# Altium schematic symbol library kmilo17pet-Maxim_Sensors.SchLib: 1172 symbols (part 13 of 61)
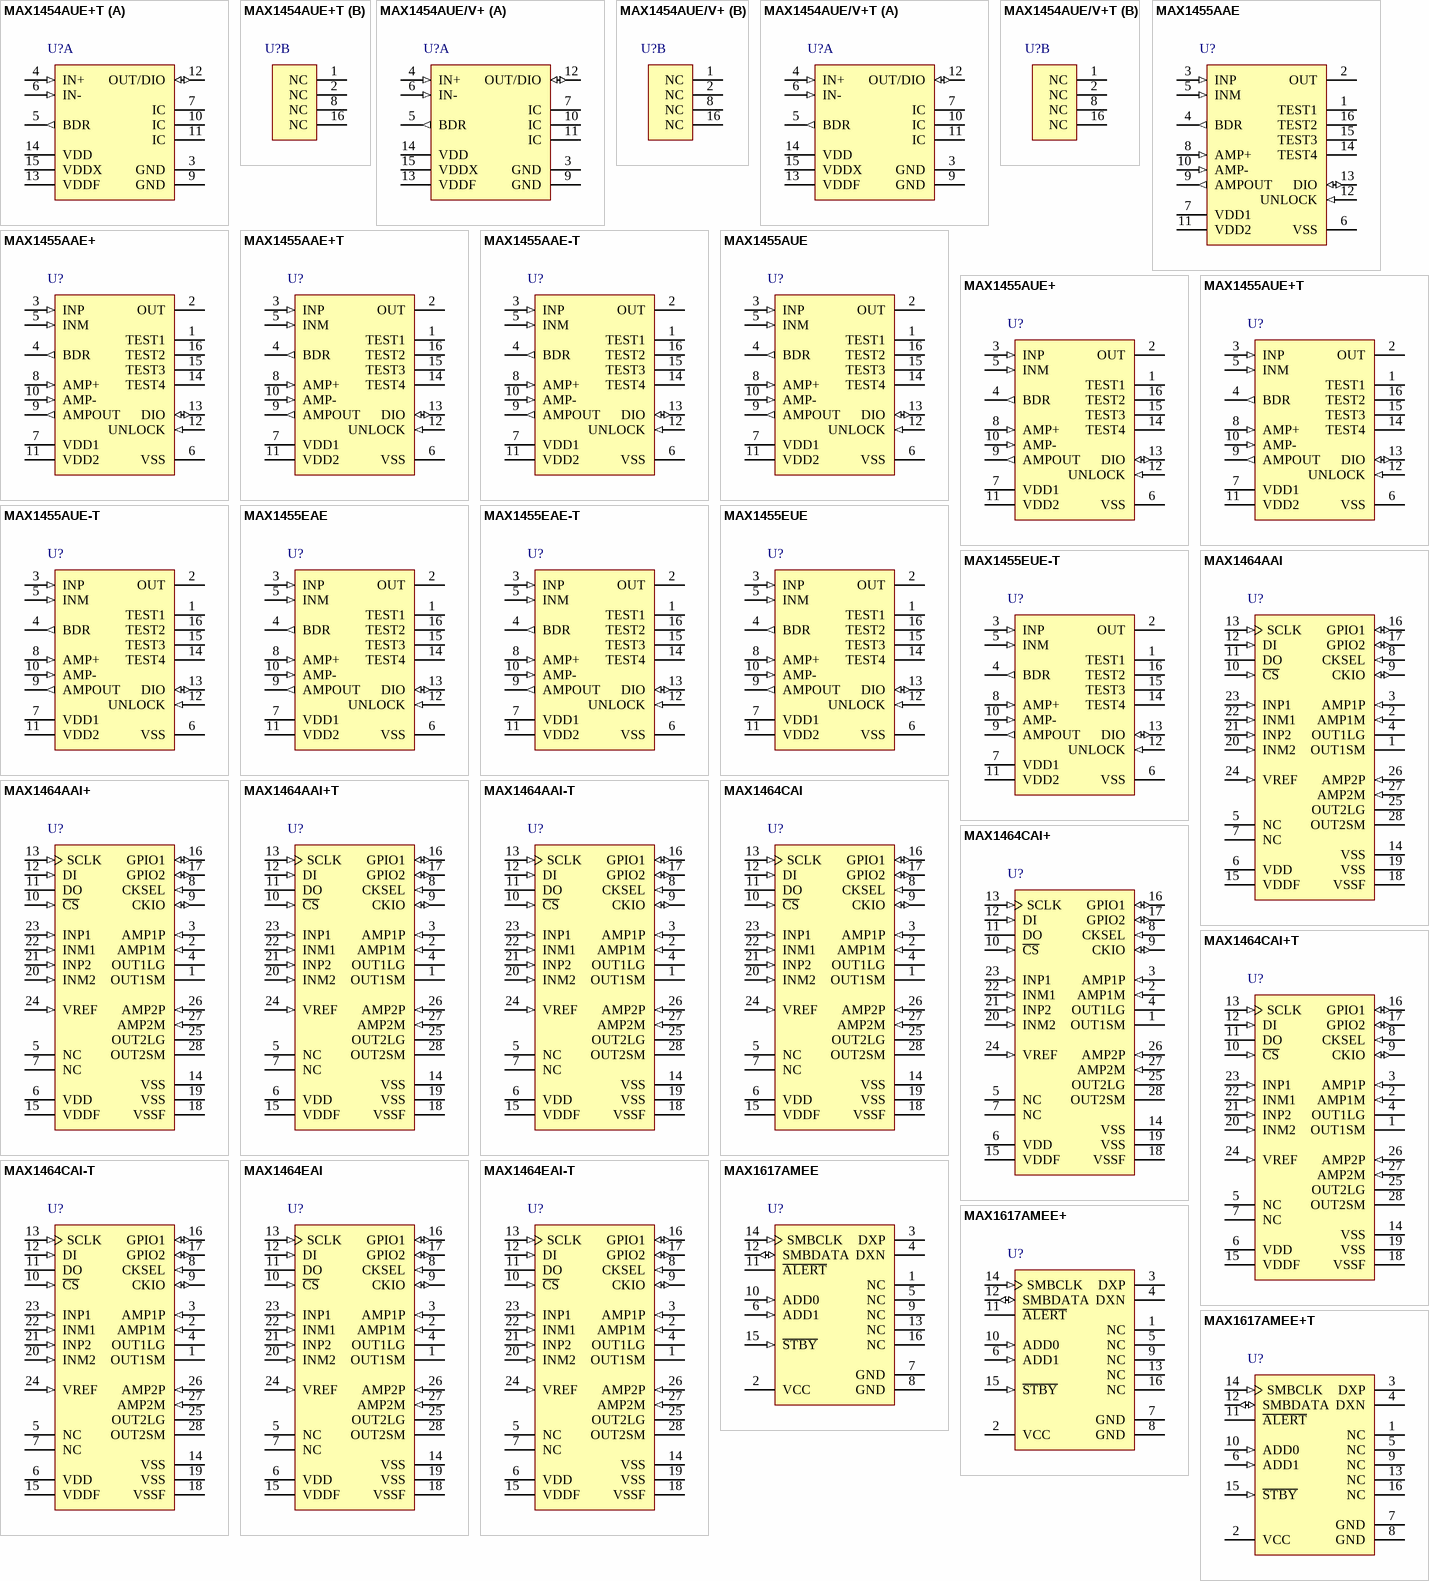
[diagram p45: symbols MAX1454AUE+T to MAX1617AMEE+T]

## MAX1464AAI
designator U?
Low-Power, Low-Noise Multichannel Sensor Signal Processor with 16-bit ADC, 16-bit DAC, -40 to 125 degC, 28-Pin SOP (A28-1); Generic Part Number: MAX1464; PartNumber: MAX1464AAI; Calibration Method: Programmable 16-BIT CPU with on-board EEPROM; Industry Qualified: Automotive - AECQ100, Automotive - General; Interface: SPI; Microcontroller/CPU: CPU (16-bit, 4 MHz); Output Type: Analog, Digital ,PMW; DatasheetVersion: Rev. 0; PackageVersion: Rev. C, 02/2010; PackageReference: A28-1; PackageDescription: 28-Pin Shrink Small-Outline Package, Body 5.29 x 10.2 mm, Pitch 0.65 mm; Supplier 1: Mouser; Supplier Part Number 1: N/A; DACs/ADCs: 16-bit ADC, 16-bit DAC; Features: Calibration, Dual Channel ,Linearization and Temp. Compensation ,Low Cost ,Outputs configurable as independent signals ,Prog. Amplification ,Temp. Sensor; Mounting Technology: Surface Mount; Code_JEDEC: MO-150; ComponentLink1Description: Manufacturer URL; ComponentLink1URL: http://www.maximintegrated.com/; ComponentLink2Description: Datasheet; ComponentLink2URL: http://datasheets.maximintegrated.com/en/ds/MAX1464.pdf; ComponentLink3Description: Package Specification; ComponentLink3URL: http://pdfserv.maximintegrated.com/package_dwgs/21-0056.PDF
footprint MAXM-A28-1_N (SOP, 28-Leads, Body 10.2x5.29mm, Pitch 0.65mm, IPC Medium Density)
footprint MAXM-A28-1_L (SOP, 28-Leads, Body 10.2x5.29mm, Pitch 0.65mm, IPC High Density)
footprint MAXM-A28-1_M (SOP, 28-Leads, Body 10.2x5.29mm, Pitch 0.65mm, IPC Low Density)
pins: 1 OUT1SM (hiz) "Small Op Amp 1 Output", 2 AMP1M (in) "Op Amp 1 Negative Input", 3 AMP1P (in) "Op Amp 1 Positive Input", 4 OUT1LG (hiz) "Large Op Amp 1 Output", 5 NC "No Connection", 6 VDD (power) "Positive Supply Voltage Input. Bypass VDD to VSS with a 0.1uF ceramic capacitor.", 7 NC "No Connection", 8 CKSEL (in) "Clock-Select Digital Input", 9 CKIO (io) "Clock Digital Input/Output", 10 ~{CS} (in) "SPI Chip-Select Digital Input. Active low.", 11 DO (hiz) "SPI Data Output", 12 DI (in) "SPI Data Input", 13 SCLK (in) "SPI Interface Clock", 14 VSS (power) "Negative Power-Supply Input", 15 VDDF (power) "Positive Supply Voltage for FLASH Memory. Bypass VDDF to VSS with a 0.1uF ceramic capacitor.", 16 GPIO1 (io) "General-Purpose Digital Input/Output 1", 17 GPIO2 (io) "General-Purpose Digital Input/Output 2", 18 VSSF (power) "Negative Power-Supply Input for FLASH Memory", 19 VSS (power) "Negative Power-Supply Input", 20 INM2 (in) "Negative Input for ADC Channel 2", 21 INP2 (in) "Positive Input for ADC Channel 2", 22 INM1 (in) "Negative Input for ADC Channel 1", 23 INP1 (in) "Positive Input for ADC Channel 1", 24 VREF (in) "External Reference Voltage Input for ADC and DACs", 25 OUT2LG (hiz) "Large Op Amp 2 Output", 26 AMP2P (in) "Op Amp 2 Positive Input", 27 AMP2M (in) "Op Amp 2 Negative Input", 28 OUT2SM (hiz) "Small Op Amp 2 Output"

## MAX1464AAI+
designator U?
Low-Power, Low-Noise Multichannel Sensor Signal Processor with 16-bit ADC, 16-bit DAC, -40 to 125 degC, 28-Pin SOP (A28+1), Pb-Free; Generic Part Number: MAX1464; PartNumber: MAX1464AAI+; Calibration Method: Programmable 16-BIT CPU with on-board EEPROM; Industry Qualified: Automotive - AECQ100, Automotive - General; Interface: SPI; Microcontroller/CPU: CPU (16-bit, 4 MHz); Output Type: Analog, Digital ,PMW; DatasheetVersion: Rev. 0; PackageVersion: Rev. C, 02/2010; PackageReference: A28+1; PackageDescription: 28-Pin Shrink Small-Outline Package, Body 5.29 x 10.2 mm, Pitch 0.65 mm; Supplier 1: Digi-Key; Supplier Part Number 1: MAX1464AAI+-ND; Supplier 2: Mouser; Supplier Part Number 2: 700-MAX1464AAI; DACs/ADCs: 16-bit ADC, 16-bit DAC; Features: Calibration, Dual Channel ,Linearization and Temp. Compensation ,Low Cost ,Outputs configurable as independent signals ,Prog. Amplification ,Temp. Sensor; Mounting Technology: Surface Mount; Code_JEDEC: MO-150; ComponentLink1Description: Manufacturer URL; ComponentLink1URL: http://www.maximintegrated.com/; ComponentLink2Description: Datasheet; ComponentLink2URL: http://datasheets.maximintegrated.com/en/ds/MAX1464.pdf; ComponentLink3Description: Package Specification; ComponentLink3URL: http://pdfserv.maximintegrated.com/package_dwgs/21-0056.PDF
footprint MAXM-A28+1_N (SOP, 28-Leads, Body 10.2x5.29mm, Pitch 0.65mm, IPC Medium Density)
footprint MAXM-A28+1_L (SOP, 28-Leads, Body 10.2x5.29mm, Pitch 0.65mm, IPC High Density)
footprint MAXM-A28+1_M (SOP, 28-Leads, Body 10.2x5.29mm, Pitch 0.65mm, IPC Low Density)
pins: 1 OUT1SM (hiz) "Small Op Amp 1 Output", 2 AMP1M (in) "Op Amp 1 Negative Input", 3 AMP1P (in) "Op Amp 1 Positive Input", 4 OUT1LG (hiz) "Large Op Amp 1 Output", 5 NC "No Connection", 6 VDD (power) "Positive Supply Voltage Input. Bypass VDD to VSS with a 0.1uF ceramic capacitor.", 7 NC "No Connection", 8 CKSEL (in) "Clock-Select Digital Input", 9 CKIO (io) "Clock Digital Input/Output", 10 ~{CS} (in) "SPI Chip-Select Digital Input. Active low.", 11 DO (hiz) "SPI Data Output", 12 DI (in) "SPI Data Input", 13 SCLK (in) "SPI Interface Clock", 14 VSS (power) "Negative Power-Supply Input", 15 VDDF (power) "Positive Supply Voltage for FLASH Memory. Bypass VDDF to VSS with a 0.1uF ceramic capacitor.", 16 GPIO1 (io) "General-Purpose Digital Input/Output 1", 17 GPIO2 (io) "General-Purpose Digital Input/Output 2", 18 VSSF (power) "Negative Power-Supply Input for FLASH Memory", 19 VSS (power) "Negative Power-Supply Input", 20 INM2 (in) "Negative Input for ADC Channel 2", 21 INP2 (in) "Positive Input for ADC Channel 2", 22 INM1 (in) "Negative Input for ADC Channel 1", 23 INP1 (in) "Positive Input for ADC Channel 1", 24 VREF (in) "External Reference Voltage Input for ADC and DACs", 25 OUT2LG (hiz) "Large Op Amp 2 Output", 26 AMP2P (in) "Op Amp 2 Positive Input", 27 AMP2M (in) "Op Amp 2 Negative Input", 28 OUT2SM (hiz) "Small Op Amp 2 Output"

## MAX1464AAI+T
designator U?
Low-Power, Low-Noise Multichannel Sensor Signal Processor with 16-bit ADC, 16-bit DAC, -40 to 125 degC, 28-Pin SOP (A28+1), Pb-Free, Tape and Reel; Generic Part Number: MAX1464; PartNumber: MAX1464AAI+T; Calibration Method: Programmable 16-BIT CPU with on-board EEPROM; Industry Qualified: Automotive - AECQ100, Automotive - General; Interface: SPI; Microcontroller/CPU: CPU (16-bit, 4 MHz); Output Type: Analog, Digital ,PMW; DatasheetVersion: Rev. 0; PackageVersion: Rev. C, 02/2010; PackageReference: A28+1; PackageDescription: 28-Pin Shrink Small-Outline Package, Body 5.29 x 10.2 mm, Pitch 0.65 mm; Supplier 1: Digi-Key; Supplier Part Number 1: MAX1464AAI+T-ND; Supplier 2: Mouser; Supplier Part Number 2: 700-MAX1464AAIT; DACs/ADCs: 16-bit ADC, 16-bit DAC; Features: Calibration, Dual Channel ,Linearization and Temp. Compensation ,Low Cost ,Outputs configurable as independent signals ,Prog. Amplification ,Temp. Sensor; Packing: Tape and Reel; Mounting Technology: Surface Mount; Code_JEDEC: MO-150; ComponentLink1Description: Manufacturer URL; ComponentLink1URL: http://www.maximintegrated.com/; ComponentLink2Description: Datasheet; ComponentLink2URL: http://datasheets.maximintegrated.com/en/ds/MAX1464.pdf; ComponentLink3Description: Package Specification; ComponentLink3URL: http://pdfserv.maximintegrated.com/package_dwgs/21-0056.PDF
footprint MAXM-A28+1_N (SOP, 28-Leads, Body 10.2x5.29mm, Pitch 0.65mm, IPC Medium Density)
footprint MAXM-A28+1_L (SOP, 28-Leads, Body 10.2x5.29mm, Pitch 0.65mm, IPC High Density)
footprint MAXM-A28+1_M (SOP, 28-Leads, Body 10.2x5.29mm, Pitch 0.65mm, IPC Low Density)
pins: 1 OUT1SM (hiz) "Small Op Amp 1 Output", 2 AMP1M (in) "Op Amp 1 Negative Input", 3 AMP1P (in) "Op Amp 1 Positive Input", 4 OUT1LG (hiz) "Large Op Amp 1 Output", 5 NC "No Connection", 6 VDD (power) "Positive Supply Voltage Input. Bypass VDD to VSS with a 0.1uF ceramic capacitor.", 7 NC "No Connection", 8 CKSEL (in) "Clock-Select Digital Input", 9 CKIO (io) "Clock Digital Input/Output", 10 ~{CS} (in) "SPI Chip-Select Digital Input. Active low.", 11 DO (hiz) "SPI Data Output", 12 DI (in) "SPI Data Input", 13 SCLK (in) "SPI Interface Clock", 14 VSS (power) "Negative Power-Supply Input", 15 VDDF (power) "Positive Supply Voltage for FLASH Memory. Bypass VDDF to VSS with a 0.1uF ceramic capacitor.", 16 GPIO1 (io) "General-Purpose Digital Input/Output 1", 17 GPIO2 (io) "General-Purpose Digital Input/Output 2", 18 VSSF (power) "Negative Power-Supply Input for FLASH Memory", 19 VSS (power) "Negative Power-Supply Input", 20 INM2 (in) "Negative Input for ADC Channel 2", 21 INP2 (in) "Positive Input for ADC Channel 2", 22 INM1 (in) "Negative Input for ADC Channel 1", 23 INP1 (in) "Positive Input for ADC Channel 1", 24 VREF (in) "External Reference Voltage Input for ADC and DACs", 25 OUT2LG (hiz) "Large Op Amp 2 Output", 26 AMP2P (in) "Op Amp 2 Positive Input", 27 AMP2M (in) "Op Amp 2 Negative Input", 28 OUT2SM (hiz) "Small Op Amp 2 Output"

## MAX1464AAI-T
designator U?
Low-Power, Low-Noise Multichannel Sensor Signal Processor with 16-bit ADC, 16-bit DAC, -40 to 125 degC, 28-Pin SOP (A28-1), Tape and Reel; Generic Part Number: MAX1464; PartNumber: MAX1464AAI-T; Calibration Method: Programmable 16-BIT CPU with on-board EEPROM; Industry Qualified: Automotive - AECQ100, Automotive - General; Interface: SPI; Microcontroller/CPU: CPU (16-bit, 4 MHz); Output Type: Analog, Digital ,PMW; DatasheetVersion: Rev. 0; PackageVersion: Rev. C, 02/2010; PackageReference: A28-1; PackageDescription: 28-Pin Shrink Small-Outline Package, Body 5.29 x 10.2 mm, Pitch 0.65 mm; Supplier 1: Mouser; Supplier Part Number 1: N/A; DACs/ADCs: 16-bit ADC, 16-bit DAC; Features: Calibration, Dual Channel ,Linearization and Temp. Compensation ,Low Cost ,Outputs configurable as independent signals ,Prog. Amplification ,Temp. Sensor; Packing: Tape and Reel; Mounting Technology: Surface Mount; Code_JEDEC: MO-150; ComponentLink1Description: Manufacturer URL; ComponentLink1URL: http://www.maximintegrated.com/; ComponentLink2Description: Datasheet; ComponentLink2URL: http://datasheets.maximintegrated.com/en/ds/MAX1464.pdf; ComponentLink3Description: Package Specification; ComponentLink3URL: http://pdfserv.maximintegrated.com/package_dwgs/21-0056.PDF
footprint MAXM-A28-1_N (SOP, 28-Leads, Body 10.2x5.29mm, Pitch 0.65mm, IPC Medium Density)
footprint MAXM-A28-1_L (SOP, 28-Leads, Body 10.2x5.29mm, Pitch 0.65mm, IPC High Density)
footprint MAXM-A28-1_M (SOP, 28-Leads, Body 10.2x5.29mm, Pitch 0.65mm, IPC Low Density)
pins: 1 OUT1SM (hiz) "Small Op Amp 1 Output", 2 AMP1M (in) "Op Amp 1 Negative Input", 3 AMP1P (in) "Op Amp 1 Positive Input", 4 OUT1LG (hiz) "Large Op Amp 1 Output", 5 NC "No Connection", 6 VDD (power) "Positive Supply Voltage Input. Bypass VDD to VSS with a 0.1uF ceramic capacitor.", 7 NC "No Connection", 8 CKSEL (in) "Clock-Select Digital Input", 9 CKIO (io) "Clock Digital Input/Output", 10 ~{CS} (in) "SPI Chip-Select Digital Input. Active low.", 11 DO (hiz) "SPI Data Output", 12 DI (in) "SPI Data Input", 13 SCLK (in) "SPI Interface Clock", 14 VSS (power) "Negative Power-Supply Input", 15 VDDF (power) "Positive Supply Voltage for FLASH Memory. Bypass VDDF to VSS with a 0.1uF ceramic capacitor.", 16 GPIO1 (io) "General-Purpose Digital Input/Output 1", 17 GPIO2 (io) "General-Purpose Digital Input/Output 2", 18 VSSF (power) "Negative Power-Supply Input for FLASH Memory", 19 VSS (power) "Negative Power-Supply Input", 20 INM2 (in) "Negative Input for ADC Channel 2", 21 INP2 (in) "Positive Input for ADC Channel 2", 22 INM1 (in) "Negative Input for ADC Channel 1", 23 INP1 (in) "Positive Input for ADC Channel 1", 24 VREF (in) "External Reference Voltage Input for ADC and DACs", 25 OUT2LG (hiz) "Large Op Amp 2 Output", 26 AMP2P (in) "Op Amp 2 Positive Input", 27 AMP2M (in) "Op Amp 2 Negative Input", 28 OUT2SM (hiz) "Small Op Amp 2 Output"

## MAX1464CAI
designator U?
Low-Power, Low-Noise Multichannel Sensor Signal Processor with 16-bit ADC, 16-bit DAC, 0 to 70 degC, 28-Pin SOP (A28-1); Generic Part Number: MAX1464; PartNumber: MAX1464CAI; Calibration Method: Programmable 16-BIT CPU with on-board EEPROM; Industry Qualified: Automotive - AECQ100, Automotive - General; Interface: SPI; Microcontroller/CPU: CPU (16-bit, 4 MHz); Output Type: Analog, Digital ,PMW; DatasheetVersion: Rev. 0; PackageVersion: Rev. C, 02/2010; PackageReference: A28-1; PackageDescription: 28-Pin Shrink Small-Outline Package, Body 5.29 x 10.2 mm, Pitch 0.65 mm; Supplier 1: Mouser; Supplier Part Number 1: N/A; DACs/ADCs: 16-bit ADC, 16-bit DAC; Features: Calibration, Dual Channel ,Linearization and Temp. Compensation ,Low Cost ,Outputs configurable as independent signals ,Prog. Amplification ,Temp. Sensor; Mounting Technology: Surface Mount; Code_JEDEC: MO-150; ComponentLink1Description: Manufacturer URL; ComponentLink1URL: http://www.maximintegrated.com/; ComponentLink2Description: Datasheet; ComponentLink2URL: http://datasheets.maximintegrated.com/en/ds/MAX1464.pdf; ComponentLink3Description: Package Specification; ComponentLink3URL: http://pdfserv.maximintegrated.com/package_dwgs/21-0056.PDF
footprint MAXM-A28-1_N (SOP, 28-Leads, Body 10.2x5.29mm, Pitch 0.65mm, IPC Medium Density)
footprint MAXM-A28-1_L (SOP, 28-Leads, Body 10.2x5.29mm, Pitch 0.65mm, IPC High Density)
footprint MAXM-A28-1_M (SOP, 28-Leads, Body 10.2x5.29mm, Pitch 0.65mm, IPC Low Density)
pins: 1 OUT1SM (hiz) "Small Op Amp 1 Output", 2 AMP1M (in) "Op Amp 1 Negative Input", 3 AMP1P (in) "Op Amp 1 Positive Input", 4 OUT1LG (hiz) "Large Op Amp 1 Output", 5 NC "No Connection", 6 VDD (power) "Positive Supply Voltage Input. Bypass VDD to VSS with a 0.1uF ceramic capacitor.", 7 NC "No Connection", 8 CKSEL (in) "Clock-Select Digital Input", 9 CKIO (io) "Clock Digital Input/Output", 10 ~{CS} (in) "SPI Chip-Select Digital Input. Active low.", 11 DO (hiz) "SPI Data Output", 12 DI (in) "SPI Data Input", 13 SCLK (in) "SPI Interface Clock", 14 VSS (power) "Negative Power-Supply Input", 15 VDDF (power) "Positive Supply Voltage for FLASH Memory. Bypass VDDF to VSS with a 0.1uF ceramic capacitor.", 16 GPIO1 (io) "General-Purpose Digital Input/Output 1", 17 GPIO2 (io) "General-Purpose Digital Input/Output 2", 18 VSSF (power) "Negative Power-Supply Input for FLASH Memory", 19 VSS (power) "Negative Power-Supply Input", 20 INM2 (in) "Negative Input for ADC Channel 2", 21 INP2 (in) "Positive Input for ADC Channel 2", 22 INM1 (in) "Negative Input for ADC Channel 1", 23 INP1 (in) "Positive Input for ADC Channel 1", 24 VREF (in) "External Reference Voltage Input for ADC and DACs", 25 OUT2LG (hiz) "Large Op Amp 2 Output", 26 AMP2P (in) "Op Amp 2 Positive Input", 27 AMP2M (in) "Op Amp 2 Negative Input", 28 OUT2SM (hiz) "Small Op Amp 2 Output"

## MAX1464CAI+
designator U?
Low-Power, Low-Noise Multichannel Sensor Signal Processor with 16-bit ADC, 16-bit DAC, 0 to 70 degC, 28-Pin SOP (A28+1), Pb-Free; Generic Part Number: MAX1464; PartNumber: MAX1464CAI+; Calibration Method: Programmable 16-BIT CPU with on-board EEPROM; Industry Qualified: Automotive - AECQ100, Automotive - General; Interface: SPI; Microcontroller/CPU: CPU (16-bit, 4 MHz); Output Type: Analog, Digital ,PMW; DatasheetVersion: Rev. 0; PackageVersion: Rev. C, 02/2010; PackageReference: A28+1; PackageDescription: 28-Pin Shrink Small-Outline Package, Body 5.29 x 10.2 mm, Pitch 0.65 mm; Supplier 1: Mouser; Supplier Part Number 1: N/A; DACs/ADCs: 16-bit ADC, 16-bit DAC; Features: Calibration, Dual Channel ,Linearization and Temp. Compensation ,Low Cost ,Outputs configurable as independent signals ,Prog. Amplification ,Temp. Sensor; Mounting Technology: Surface Mount; Code_JEDEC: MO-150; ComponentLink1Description: Manufacturer URL; ComponentLink1URL: http://www.maximintegrated.com/; ComponentLink2Description: Datasheet; ComponentLink2URL: http://datasheets.maximintegrated.com/en/ds/MAX1464.pdf; ComponentLink3Description: Package Specification; ComponentLink3URL: http://pdfserv.maximintegrated.com/package_dwgs/21-0056.PDF
footprint MAXM-A28+1_N (SOP, 28-Leads, Body 10.2x5.29mm, Pitch 0.65mm, IPC Medium Density)
footprint MAXM-A28+1_L (SOP, 28-Leads, Body 10.2x5.29mm, Pitch 0.65mm, IPC High Density)
footprint MAXM-A28+1_M (SOP, 28-Leads, Body 10.2x5.29mm, Pitch 0.65mm, IPC Low Density)
pins: 1 OUT1SM (hiz) "Small Op Amp 1 Output", 2 AMP1M (in) "Op Amp 1 Negative Input", 3 AMP1P (in) "Op Amp 1 Positive Input", 4 OUT1LG (hiz) "Large Op Amp 1 Output", 5 NC "No Connection", 6 VDD (power) "Positive Supply Voltage Input. Bypass VDD to VSS with a 0.1uF ceramic capacitor.", 7 NC "No Connection", 8 CKSEL (in) "Clock-Select Digital Input", 9 CKIO (io) "Clock Digital Input/Output", 10 ~{CS} (in) "SPI Chip-Select Digital Input. Active low.", 11 DO (hiz) "SPI Data Output", 12 DI (in) "SPI Data Input", 13 SCLK (in) "SPI Interface Clock", 14 VSS (power) "Negative Power-Supply Input", 15 VDDF (power) "Positive Supply Voltage for FLASH Memory. Bypass VDDF to VSS with a 0.1uF ceramic capacitor.", 16 GPIO1 (io) "General-Purpose Digital Input/Output 1", 17 GPIO2 (io) "General-Purpose Digital Input/Output 2", 18 VSSF (power) "Negative Power-Supply Input for FLASH Memory", 19 VSS (power) "Negative Power-Supply Input", 20 INM2 (in) "Negative Input for ADC Channel 2", 21 INP2 (in) "Positive Input for ADC Channel 2", 22 INM1 (in) "Negative Input for ADC Channel 1", 23 INP1 (in) "Positive Input for ADC Channel 1", 24 VREF (in) "External Reference Voltage Input for ADC and DACs", 25 OUT2LG (hiz) "Large Op Amp 2 Output", 26 AMP2P (in) "Op Amp 2 Positive Input", 27 AMP2M (in) "Op Amp 2 Negative Input", 28 OUT2SM (hiz) "Small Op Amp 2 Output"

## MAX1464CAI+T
designator U?
Low-Power, Low-Noise Multichannel Sensor Signal Processor with 16-bit ADC, 16-bit DAC, 0 to 70 degC, 28-Pin SOP (A28+1), Pb-Free, Tape and Reel; Generic Part Number: MAX1464; PartNumber: MAX1464CAI+T; Calibration Method: Programmable 16-BIT CPU with on-board EEPROM; Industry Qualified: Automotive - AECQ100, Automotive - General; Interface: SPI; Microcontroller/CPU: CPU (16-bit, 4 MHz); Output Type: Analog, Digital ,PMW; DatasheetVersion: Rev. 0; PackageVersion: Rev. C, 02/2010; PackageReference: A28+1; PackageDescription: 28-Pin Shrink Small-Outline Package, Body 5.29 x 10.2 mm, Pitch 0.65 mm; Supplier 1: Mouser; Supplier Part Number 1: N/A; DACs/ADCs: 16-bit ADC, 16-bit DAC; Features: Calibration, Dual Channel ,Linearization and Temp. Compensation ,Low Cost ,Outputs configurable as independent signals ,Prog. Amplification ,Temp. Sensor; Packing: Tape and Reel; Mounting Technology: Surface Mount; Code_JEDEC: MO-150; ComponentLink1Description: Manufacturer URL; ComponentLink1URL: http://www.maximintegrated.com/; ComponentLink2Description: Datasheet; ComponentLink2URL: http://datasheets.maximintegrated.com/en/ds/MAX1464.pdf; ComponentLink3Description: Package Specification; ComponentLink3URL: http://pdfserv.maximintegrated.com/package_dwgs/21-0056.PDF
footprint MAXM-A28+1_N (SOP, 28-Leads, Body 10.2x5.29mm, Pitch 0.65mm, IPC Medium Density)
footprint MAXM-A28+1_L (SOP, 28-Leads, Body 10.2x5.29mm, Pitch 0.65mm, IPC High Density)
footprint MAXM-A28+1_M (SOP, 28-Leads, Body 10.2x5.29mm, Pitch 0.65mm, IPC Low Density)
pins: 1 OUT1SM (hiz) "Small Op Amp 1 Output", 2 AMP1M (in) "Op Amp 1 Negative Input", 3 AMP1P (in) "Op Amp 1 Positive Input", 4 OUT1LG (hiz) "Large Op Amp 1 Output", 5 NC "No Connection", 6 VDD (power) "Positive Supply Voltage Input. Bypass VDD to VSS with a 0.1uF ceramic capacitor.", 7 NC "No Connection", 8 CKSEL (in) "Clock-Select Digital Input", 9 CKIO (io) "Clock Digital Input/Output", 10 ~{CS} (in) "SPI Chip-Select Digital Input. Active low.", 11 DO (hiz) "SPI Data Output", 12 DI (in) "SPI Data Input", 13 SCLK (in) "SPI Interface Clock", 14 VSS (power) "Negative Power-Supply Input", 15 VDDF (power) "Positive Supply Voltage for FLASH Memory. Bypass VDDF to VSS with a 0.1uF ceramic capacitor.", 16 GPIO1 (io) "General-Purpose Digital Input/Output 1", 17 GPIO2 (io) "General-Purpose Digital Input/Output 2", 18 VSSF (power) "Negative Power-Supply Input for FLASH Memory", 19 VSS (power) "Negative Power-Supply Input", 20 INM2 (in) "Negative Input for ADC Channel 2", 21 INP2 (in) "Positive Input for ADC Channel 2", 22 INM1 (in) "Negative Input for ADC Channel 1", 23 INP1 (in) "Positive Input for ADC Channel 1", 24 VREF (in) "External Reference Voltage Input for ADC and DACs", 25 OUT2LG (hiz) "Large Op Amp 2 Output", 26 AMP2P (in) "Op Amp 2 Positive Input", 27 AMP2M (in) "Op Amp 2 Negative Input", 28 OUT2SM (hiz) "Small Op Amp 2 Output"

## MAX1464CAI-T
designator U?
Low-Power, Low-Noise Multichannel Sensor Signal Processor with 16-bit ADC, 16-bit DAC, 0 to 70 degC, 28-Pin SOP (A28-1), Tape and Reel; Generic Part Number: MAX1464; PartNumber: MAX1464CAI-T; Calibration Method: Programmable 16-BIT CPU with on-board EEPROM; Industry Qualified: Automotive - AECQ100, Automotive - General; Interface: SPI; Microcontroller/CPU: CPU (16-bit, 4 MHz); Output Type: Analog, Digital ,PMW; DatasheetVersion: Rev. 0; PackageVersion: Rev. C, 02/2010; PackageReference: A28-1; PackageDescription: 28-Pin Shrink Small-Outline Package, Body 5.29 x 10.2 mm, Pitch 0.65 mm; Supplier 1: Mouser; Supplier Part Number 1: N/A; DACs/ADCs: 16-bit ADC, 16-bit DAC; Features: Calibration, Dual Channel ,Linearization and Temp. Compensation ,Low Cost ,Outputs configurable as independent signals ,Prog. Amplification ,Temp. Sensor; Packing: Tape and Reel; Mounting Technology: Surface Mount; Code_JEDEC: MO-150; ComponentLink1Description: Manufacturer URL; ComponentLink1URL: http://www.maximintegrated.com/; ComponentLink2Description: Datasheet; ComponentLink2URL: http://datasheets.maximintegrated.com/en/ds/MAX1464.pdf; ComponentLink3Description: Package Specification; ComponentLink3URL: http://pdfserv.maximintegrated.com/package_dwgs/21-0056.PDF
footprint MAXM-A28-1_N (SOP, 28-Leads, Body 10.2x5.29mm, Pitch 0.65mm, IPC Medium Density)
footprint MAXM-A28-1_L (SOP, 28-Leads, Body 10.2x5.29mm, Pitch 0.65mm, IPC High Density)
footprint MAXM-A28-1_M (SOP, 28-Leads, Body 10.2x5.29mm, Pitch 0.65mm, IPC Low Density)
pins: 1 OUT1SM (hiz) "Small Op Amp 1 Output", 2 AMP1M (in) "Op Amp 1 Negative Input", 3 AMP1P (in) "Op Amp 1 Positive Input", 4 OUT1LG (hiz) "Large Op Amp 1 Output", 5 NC "No Connection", 6 VDD (power) "Positive Supply Voltage Input. Bypass VDD to VSS with a 0.1uF ceramic capacitor.", 7 NC "No Connection", 8 CKSEL (in) "Clock-Select Digital Input", 9 CKIO (io) "Clock Digital Input/Output", 10 ~{CS} (in) "SPI Chip-Select Digital Input. Active low.", 11 DO (hiz) "SPI Data Output", 12 DI (in) "SPI Data Input", 13 SCLK (in) "SPI Interface Clock", 14 VSS (power) "Negative Power-Supply Input", 15 VDDF (power) "Positive Supply Voltage for FLASH Memory. Bypass VDDF to VSS with a 0.1uF ceramic capacitor.", 16 GPIO1 (io) "General-Purpose Digital Input/Output 1", 17 GPIO2 (io) "General-Purpose Digital Input/Output 2", 18 VSSF (power) "Negative Power-Supply Input for FLASH Memory", 19 VSS (power) "Negative Power-Supply Input", 20 INM2 (in) "Negative Input for ADC Channel 2", 21 INP2 (in) "Positive Input for ADC Channel 2", 22 INM1 (in) "Negative Input for ADC Channel 1", 23 INP1 (in) "Positive Input for ADC Channel 1", 24 VREF (in) "External Reference Voltage Input for ADC and DACs", 25 OUT2LG (hiz) "Large Op Amp 2 Output", 26 AMP2P (in) "Op Amp 2 Positive Input", 27 AMP2M (in) "Op Amp 2 Negative Input", 28 OUT2SM (hiz) "Small Op Amp 2 Output"

## MAX1464EAI
designator U?
Low-Power, Low-Noise Multichannel Sensor Signal Processor with 16-bit ADC, 16-bit DAC, -40 to 85 degC, 28-Pin SOP (A28-1); Generic Part Number: MAX1464; PartNumber: MAX1464EAI; Calibration Method: Programmable 16-BIT CPU with on-board EEPROM; Industry Qualified: Automotive - AECQ100, Automotive - General; Interface: SPI; Microcontroller/CPU: CPU (16-bit, 4 MHz); Output Type: Analog, Digital ,PMW; DatasheetVersion: Rev. 0; PackageVersion: Rev. C, 02/2010; PackageReference: A28-1; PackageDescription: 28-Pin Shrink Small-Outline Package, Body 5.29 x 10.2 mm, Pitch 0.65 mm; Supplier 1: Mouser; Supplier Part Number 1: N/A; DACs/ADCs: 16-bit ADC, 16-bit DAC; Features: Calibration, Dual Channel ,Linearization and Temp. Compensation ,Low Cost ,Outputs configurable as independent signals ,Prog. Amplification ,Temp. Sensor; Mounting Technology: Surface Mount; Code_JEDEC: MO-150; ComponentLink1Description: Manufacturer URL; ComponentLink1URL: http://www.maximintegrated.com/; ComponentLink2Description: Datasheet; ComponentLink2URL: http://datasheets.maximintegrated.com/en/ds/MAX1464.pdf; ComponentLink3Description: Package Specification; ComponentLink3URL: http://pdfserv.maximintegrated.com/package_dwgs/21-0056.PDF
footprint MAXM-A28-1_N (SOP, 28-Leads, Body 10.2x5.29mm, Pitch 0.65mm, IPC Medium Density)
footprint MAXM-A28-1_L (SOP, 28-Leads, Body 10.2x5.29mm, Pitch 0.65mm, IPC High Density)
footprint MAXM-A28-1_M (SOP, 28-Leads, Body 10.2x5.29mm, Pitch 0.65mm, IPC Low Density)
pins: 1 OUT1SM (hiz) "Small Op Amp 1 Output", 2 AMP1M (in) "Op Amp 1 Negative Input", 3 AMP1P (in) "Op Amp 1 Positive Input", 4 OUT1LG (hiz) "Large Op Amp 1 Output", 5 NC "No Connection", 6 VDD (power) "Positive Supply Voltage Input. Bypass VDD to VSS with a 0.1uF ceramic capacitor.", 7 NC "No Connection", 8 CKSEL (in) "Clock-Select Digital Input", 9 CKIO (io) "Clock Digital Input/Output", 10 ~{CS} (in) "SPI Chip-Select Digital Input. Active low.", 11 DO (hiz) "SPI Data Output", 12 DI (in) "SPI Data Input", 13 SCLK (in) "SPI Interface Clock", 14 VSS (power) "Negative Power-Supply Input", 15 VDDF (power) "Positive Supply Voltage for FLASH Memory. Bypass VDDF to VSS with a 0.1uF ceramic capacitor.", 16 GPIO1 (io) "General-Purpose Digital Input/Output 1", 17 GPIO2 (io) "General-Purpose Digital Input/Output 2", 18 VSSF (power) "Negative Power-Supply Input for FLASH Memory", 19 VSS (power) "Negative Power-Supply Input", 20 INM2 (in) "Negative Input for ADC Channel 2", 21 INP2 (in) "Positive Input for ADC Channel 2", 22 INM1 (in) "Negative Input for ADC Channel 1", 23 INP1 (in) "Positive Input for ADC Channel 1", 24 VREF (in) "External Reference Voltage Input for ADC and DACs", 25 OUT2LG (hiz) "Large Op Amp 2 Output", 26 AMP2P (in) "Op Amp 2 Positive Input", 27 AMP2M (in) "Op Amp 2 Negative Input", 28 OUT2SM (hiz) "Small Op Amp 2 Output"

## MAX1464EAI-T
designator U?
Low-Power, Low-Noise Multichannel Sensor Signal Processor with 16-bit ADC, 16-bit DAC, -40 to 85 degC, 28-Pin SOP (A28-1), Tape and Reel; Generic Part Number: MAX1464; PartNumber: MAX1464EAI-T; Calibration Method: Programmable 16-BIT CPU with on-board EEPROM; Industry Qualified: Automotive - AECQ100, Automotive - General; Interface: SPI; Microcontroller/CPU: CPU (16-bit, 4 MHz); Output Type: Analog, Digital, PMW; DatasheetVersion: Rev. 0; PackageVersion: Rev. C, 02/2010; PackageReference: A28-1; PackageDescription: 28-Pin Shrink Small-Outline Package, Body 5.29 x 10.2 mm, Pitch 0.65 mm; Supplier 1: Mouser; Supplier Part Number 1: N/A; DACs/ADCs: 16-bit ADC, 16-bit DAC; Features: Calibration, Dual Channel, Linearization and Temp. Compensation, Low Cost, Outputs configurable as independent signals, Prog. Amplification, Temp. Sensor; Packing: Tape and Reel; Mounting Technology: Surface Mount; Code_JEDEC: MO-150; ComponentLink1Description: Manufacturer URL; ComponentLink1URL: http://www.maximintegrated.com/; ComponentLink2Description: Datasheet; ComponentLink2URL: http://datasheets.maximintegrated.com/en/ds/MAX1464.pdf; ComponentLink3Description: Package Specification; ComponentLink3URL: http://pdfserv.maximintegrated.com/package_dwgs/21-0056.PDF
footprint MAXM-A28-1_N (SOP, 28-Leads, Body 10.2x5.29mm, Pitch 0.65mm, IPC Medium Density)
footprint MAXM-A28-1_L (SOP, 28-Leads, Body 10.2x5.29mm, Pitch 0.65mm, IPC High Density)
footprint MAXM-A28-1_M (SOP, 28-Leads, Body 10.2x5.29mm, Pitch 0.65mm, IPC Low Density)
pins: 1 OUT1SM (hiz) "Small Op Amp 1 Output", 2 AMP1M (in) "Op Amp 1 Negative Input", 3 AMP1P (in) "Op Amp 1 Positive Input", 4 OUT1LG (hiz) "Large Op Amp 1 Output", 5 NC "No Connection", 6 VDD (power) "Positive Supply Voltage Input. Bypass VDD to VSS with a 0.1uF ceramic capacitor.", 7 NC "No Connection", 8 CKSEL (in) "Clock-Select Digital Input", 9 CKIO (io) "Clock Digital Input/Output", 10 ~{CS} (in) "SPI Chip-Select Digital Input. Active low.", 11 DO (hiz) "SPI Data Output", 12 DI (in) "SPI Data Input", 13 SCLK (in) "SPI Interface Clock", 14 VSS (power) "Negative Power-Supply Input", 15 VDDF (power) "Positive Supply Voltage for FLASH Memory. Bypass VDDF to VSS with a 0.1uF ceramic capacitor.", 16 GPIO1 (io) "General-Purpose Digital Input/Output 1", 17 GPIO2 (io) "General-Purpose Digital Input/Output 2", 18 VSSF (power) "Negative Power-Supply Input for FLASH Memory", 19 VSS (power) "Negative Power-Supply Input", 20 INM2 (in) "Negative Input for ADC Channel 2", 21 INP2 (in) "Positive Input for ADC Channel 2", 22 INM1 (in) "Negative Input for ADC Channel 1", 23 INP1 (in) "Positive Input for ADC Channel 1", 24 VREF (in) "External Reference Voltage Input for ADC and DACs", 25 OUT2LG (hiz) "Large Op Amp 2 Output", 26 AMP2P (in) "Op Amp 2 Positive Input", 27 AMP2M (in) "Op Amp 2 Negative Input", 28 OUT2SM (hiz) "Small Op Amp 2 Output"

## MAX1617AMEE
designator U?
Remote / Local Temperature Sensor with SMBus Serial Interface, 8 Bits Temperature Resolution, -55 to 125 degC, 16-Pin SOP (E16-1); Generic Part Number: MAX1617A; PartNumber: MAX1617AMEE; Alarm Output: Alert; Functions: Remote & Local Sensor; Interface: 2-Wire/I2C/SMBus; Parasite Pwr.: No; DatasheetVersion: Rev. 1; PackageVersion: Rev. K, 04/2012; PackageReference: E16-1; PackageDescription: 16-Pin Quarter Small-Outline Package (E16-1), Body 4.90 x 3.89 mm, Pitch 0.635 mm; Supplier 1: Digi-Key; Supplier Part Number 1: MAX1617AMEE-ND; Supplier 2: Mouser; Supplier Part Number 2: N/A; Mounting Technology: Surface Mount; Code_JEDEC: MO137; ComponentLink1Description: Manufacturer URL; ComponentLink1URL: http://www.maximintegrated.com/; ComponentLink2Description: Datasheet; ComponentLink2URL: http://datasheets.maximintegrated.com/en/ds/MAX1617A.pdf; ComponentLink3Description: Package Specification; ComponentLink3URL: http://pdfserv.maximintegrated.com/package_dwgs/21-0055.PDF
footprint MAXM-E16-1_N (SOP, 16-Leads, Body 4.9x3.89mm, Pitch 0.635mm, IPC Medium Density)
footprint MAXM-E16-1_L (SOP, 16-Leads, Body 4.9x3.89mm, Pitch 0.635mm, IPC High Density)
footprint MAXM-E16-1_M (SOP, 16-Leads, Body 4.9x3.89mm, Pitch 0.635mm, IPC Low Density)
pins: 1 NC "No Connection. Not internally connected. May be used for PC board trace routing.", 2 VCC (power) "Supply Voltage Input. +3.0V to +5.5V. Bypass to GND with a 0.1uF capacitor. A 200ohm series resistor is recommended but not required for additional noise filtering.", 3 DXP "Combined Current Source and ADC Positive Input for Remote-Junction Channel. If a remotesensing junction is not used, connect DXP to DXN.", 4 DXN "Combined Current Sink and ADC Negative Input. DXN is internally biased to a diode voltage above ground.", 5 NC "No Connection. Not internally connected. May be used for PC board trace routing.", 6 ADD1 (in) "SMBus Slave Address Select Input. ADD0 and ADD1 are sampled upon power-up.", 7 GND (power) "Ground", 8 GND (power) "Ground", 9 NC "No Connection. Not internally connected. May be used for PC board trace routing.", 10 ADD0 (in) "SMBus Slave Address Select Input. ADD0 and ADD1 are sampled upon power-up.", 11 ~{ALERT} (oc) "SMBus Alert (Interrupt) Output. Open drain.", 12 SMBDATA (io) "SMBus Serial-Data Input/Output. Open drain.", 13 NC "No Connection. Not internally connected. May be used for PC board trace routing.", 14 SMBCLK (in) "SMBus Serial-Clock Input", 15 ~{STBY} (in) "Hardware Standby Input. Temperature and comparison threshold data are retained in standby mode. Low = standby mode, high = operating mode.", 16 NC "No Connection. Not internally connected. May be used for PC board trace routing."

## MAX1617AMEE+
designator U?
Remote / Local Temperature Sensor with SMBus Serial Interface, 8 Bits Temperature Resolution, -55 to 125 degC, 16-Pin SOP (E16+1), Pb-Free; Generic Part Number: MAX1617A; PartNumber: MAX1617AMEE+; Alarm Output: Alert; Functions: Remote & Local Sensor; Interface: 2-Wire/I2C/SMBus; Parasite Pwr.: No; DatasheetVersion: Rev. 1; PackageVersion: Rev. K, 04/2012; PackageReference: E16+1; PackageDescription: 16-Pin Quarter Small-Outline Package (E16+1), Body 4.90 x 3.89 mm, Pitch 0.635 mm; Supplier 1: Digi-Key; Supplier Part Number 1: MAX1617AMEE+-ND; Supplier 2: Farnell; Supplier Part Number 2: 2113187; Supplier 3: Newark; Supplier Part Number 3: 95T9144; Supplier 4: Mouser; Supplier Part Number 4: 700-MAX1617AMEE; Mounting Technology: Surface Mount; Code_JEDEC: MO137; ComponentLink1Description: Manufacturer URL; ComponentLink1URL: http://www.maximintegrated.com/; ComponentLink2Description: Datasheet; ComponentLink2URL: http://datasheets.maximintegrated.com/en/ds/MAX1617A.pdf; ComponentLink3Description: Package Specification; ComponentLink3URL: http://pdfserv.maximintegrated.com/package_dwgs/21-0055.PDF
footprint MAXM-E16+1_N (SOP, 16-Leads, Body 4.9x3.89mm, Pitch 0.635mm, IPC Medium Density)
footprint MAXM-E16+1_L (SOP, 16-Leads, Body 4.9x3.89mm, Pitch 0.635mm, IPC High Density)
footprint MAXM-E16+1_M (SOP, 16-Leads, Body 4.9x3.89mm, Pitch 0.635mm, IPC Low Density)
pins: 1 NC "No Connection. Not internally connected. May be used for PC board trace routing.", 2 VCC (power) "Supply Voltage Input. +3.0V to +5.5V. Bypass to GND with a 0.1uF capacitor. A 200ohm series resistor is recommended but not required for additional noise filtering.", 3 DXP "Combined Current Source and ADC Positive Input for Remote-Junction Channel. If a remotesensing junction is not used, connect DXP to DXN.", 4 DXN "Combined Current Sink and ADC Negative Input. DXN is internally biased to a diode voltage above ground.", 5 NC "No Connection. Not internally connected. May be used for PC board trace routing.", 6 ADD1 (in) "SMBus Slave Address Select Input. ADD0 and ADD1 are sampled upon power-up.", 7 GND (power) "Ground", 8 GND (power) "Ground", 9 NC "No Connection. Not internally connected. May be used for PC board trace routing.", 10 ADD0 (in) "SMBus Slave Address Select Input. ADD0 and ADD1 are sampled upon power-up.", 11 ~{ALERT} (oc) "SMBus Alert (Interrupt) Output. Open drain.", 12 SMBDATA (io) "SMBus Serial-Data Input/Output. Open drain.", 13 NC "No Connection. Not internally connected. May be used for PC board trace routing.", 14 SMBCLK (in) "SMBus Serial-Clock Input", 15 ~{STBY} (in) "Hardware Standby Input. Temperature and comparison threshold data are retained in standby mode. Low = standby mode, high = operating mode.", 16 NC "No Connection. Not internally connected. May be used for PC board trace routing."

## MAX1617AMEE+T
designator U?
Remote / Local Temperature Sensor with SMBus Serial Interface, 8 Bits Temperature Resolution, -55 to 125 degC, 16-Pin SOP (E16+1), Pb-Free, Tape and Reel; Generic Part Number: MAX1617A; PartNumber: MAX1617AMEE+T; Alarm Output: Alert; Functions: Remote & Local Sensor; Interface: 2-Wire/I2C/SMBus; Parasite Pwr.: No; DatasheetVersion: Rev. 1; PackageVersion: Rev. K, 04/2012; PackageReference: E16+1; PackageDescription: 16-Pin Quarter Small-Outline Package (E16+1), Body 4.90 x 3.89 mm, Pitch 0.635 mm; Supplier 1: Digi-Key; Supplier Part Number 1: MAX1617AMEE+T-ND; Supplier 2: Mouser; Supplier Part Number 2: 700-MAX1617AMEET; Packing: Tape and Reel; Mounting Technology: Surface Mount; Code_JEDEC: MO137; ComponentLink1Description: Manufacturer URL; ComponentLink1URL: http://www.maximintegrated.com/; ComponentLink2Description: Datasheet; ComponentLink2URL: http://datasheets.maximintegrated.com/en/ds/MAX1617A.pdf; ComponentLink3Description: Package Specification; ComponentLink3URL: http://pdfserv.maximintegrated.com/package_dwgs/21-0055.PDF
footprint MAXM-E16+1_N (SOP, 16-Leads, Body 4.9x3.89mm, Pitch 0.635mm, IPC Medium Density)
footprint MAXM-E16+1_L (SOP, 16-Leads, Body 4.9x3.89mm, Pitch 0.635mm, IPC High Density)
footprint MAXM-E16+1_M (SOP, 16-Leads, Body 4.9x3.89mm, Pitch 0.635mm, IPC Low Density)
pins: 1 NC "No Connection. Not internally connected. May be used for PC board trace routing.", 2 VCC (power) "Supply Voltage Input. +3.0V to +5.5V. Bypass to GND with a 0.1uF capacitor. A 200ohm series resistor is recommended but not required for additional noise filtering.", 3 DXP "Combined Current Source and ADC Positive Input for Remote-Junction Channel. If a remotesensing junction is not used, connect DXP to DXN.", 4 DXN "Combined Current Sink and ADC Negative Input. DXN is internally biased to a diode voltage above ground.", 5 NC "No Connection. Not internally connected. May be used for PC board trace routing.", 6 ADD1 (in) "SMBus Slave Address Select Input. ADD0 and ADD1 are sampled upon power-up.", 7 GND (power) "Ground", 8 GND (power) "Ground", 9 NC "No Connection. Not internally connected. May be used for PC board trace routing.", 10 ADD0 (in) "SMBus Slave Address Select Input. ADD0 and ADD1 are sampled upon power-up.", 11 ~{ALERT} (oc) "SMBus Alert (Interrupt) Output. Open drain.", 12 SMBDATA (io) "SMBus Serial-Data Input/Output. Open drain.", 13 NC "No Connection. Not internally connected. May be used for PC board trace routing.", 14 SMBCLK (in) "SMBus Serial-Clock Input", 15 ~{STBY} (in) "Hardware Standby Input. Temperature and comparison threshold data are retained in standby mode. Low = standby mode, high = operating mode.", 16 NC "No Connection. Not internally connected. May be used for PC board trace routing."

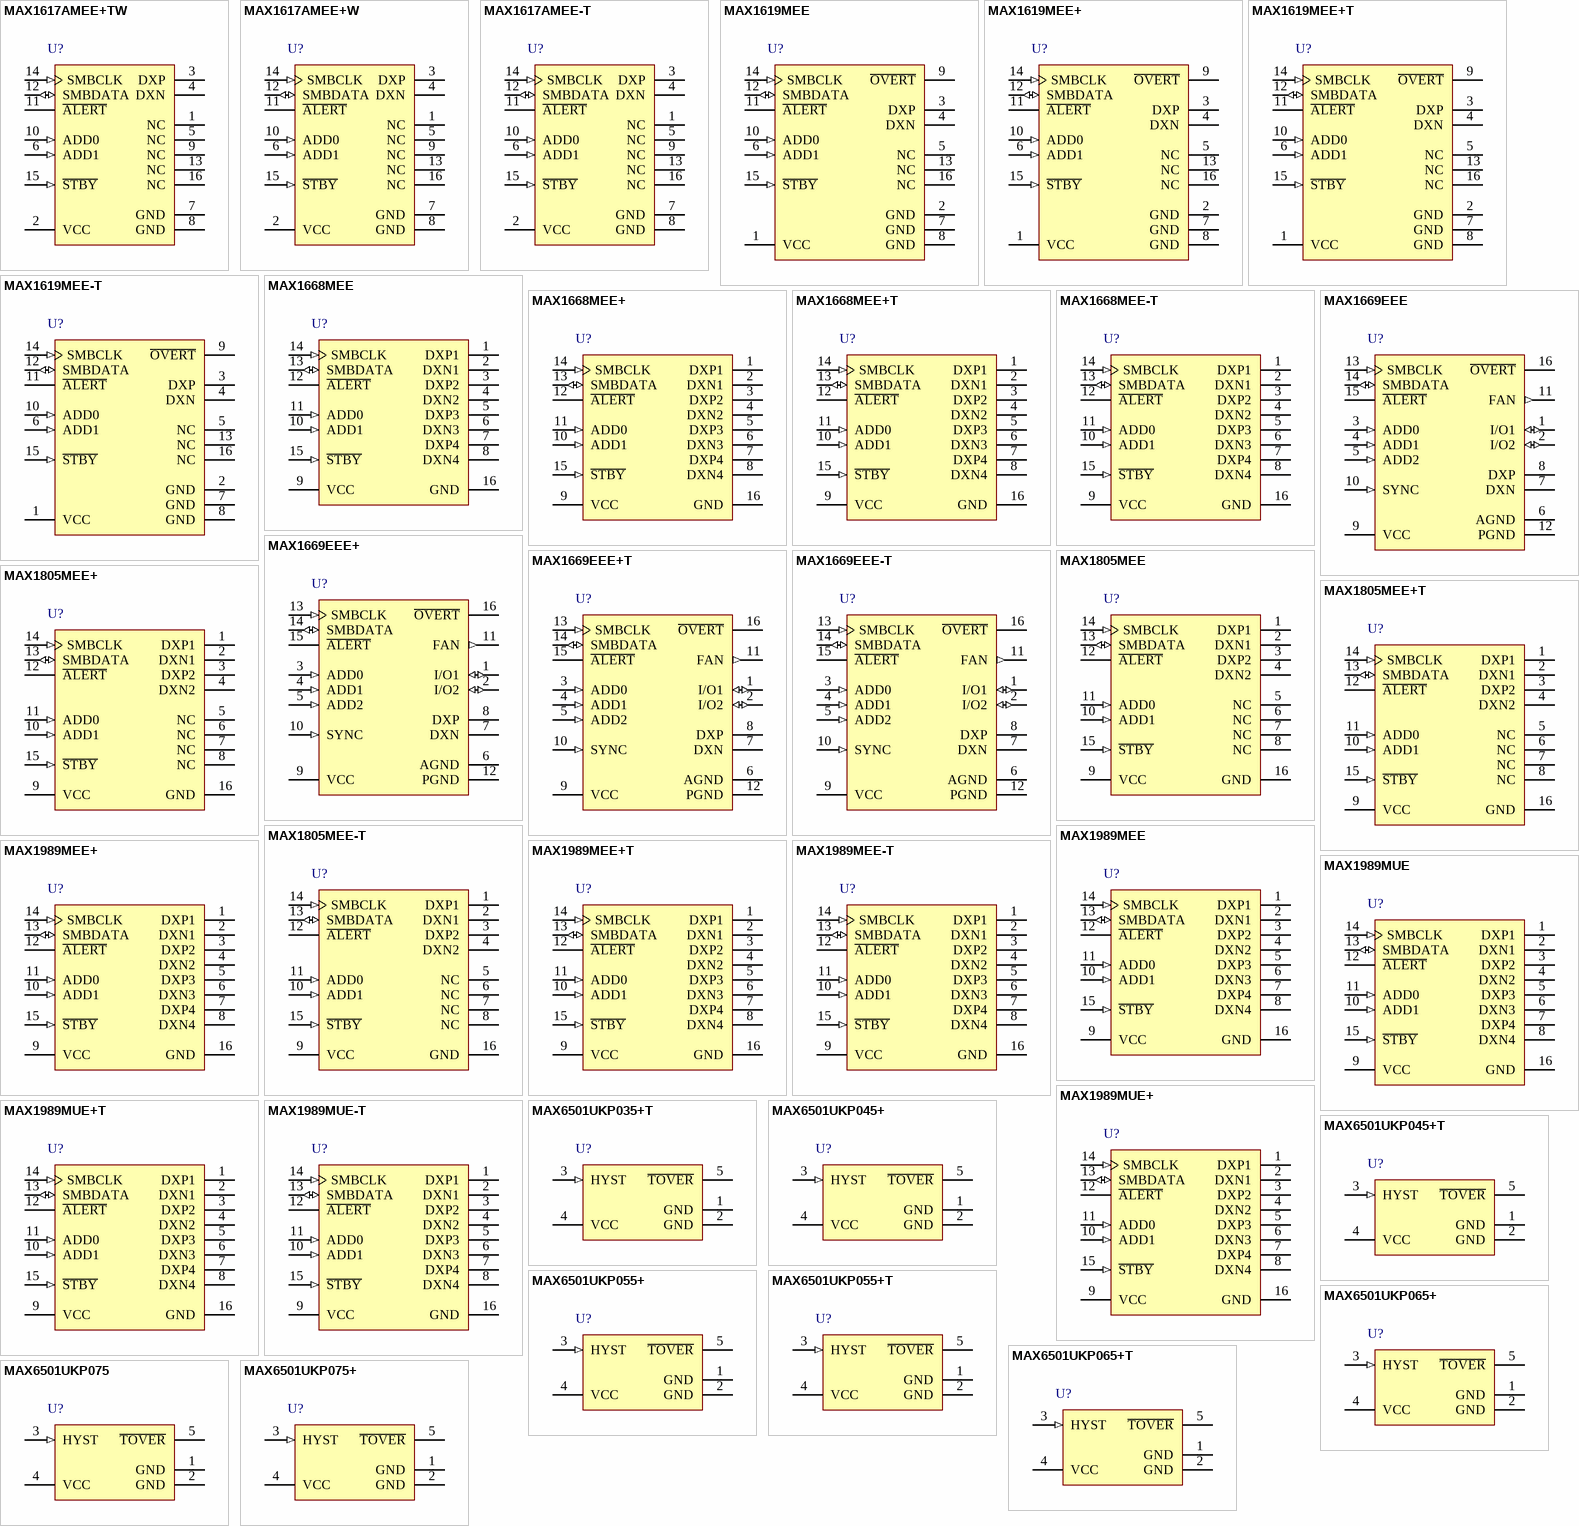
[diagram p8: symbols MAX1617AMEE+TW to MAX6501UKP075+]

## MAX1617AMEE+TW
designator U?
Remote / Local Temperature Sensor with SMBus Serial Interface, 8 Bits Temperature Resolution, -55 to 125 degC, 16-Pin SOP (E16+1), Pb-Free, Tape and Reel; Generic Part Number: MAX1617A; PartNumber: MAX1617AMEE+TW; Alarm Output: Alert; Functions: Remote & Local Sensor; Interface: 2-Wire/I2C/SMBus; Parasite Pwr.: No; DatasheetVersion: Rev. 1; PackageVersion: Rev. K, 04/2012; PackageReference: E16+1; PackageDescription: 16-Pin Quarter Small-Outline Package (E16+1), Body 4.90 x 3.89 mm, Pitch 0.635 mm; Supplier 1: Mouser; Supplier Part Number 1: N/A; Packing: Tape and Reel; Mounting Technology: Surface Mount; Code_JEDEC: MO137; ComponentLink1Description: Manufacturer URL; ComponentLink1URL: http://www.maximintegrated.com/; ComponentLink2Description: Datasheet; ComponentLink2URL: http://datasheets.maximintegrated.com/en/ds/MAX1617A.pdf; ComponentLink3Description: Package Specification; ComponentLink3URL: http://pdfserv.maximintegrated.com/package_dwgs/21-0055.PDF
footprint MAXM-E16+1_N (SOP, 16-Leads, Body 4.9x3.89mm, Pitch 0.635mm, IPC Medium Density)
footprint MAXM-E16+1_L (SOP, 16-Leads, Body 4.9x3.89mm, Pitch 0.635mm, IPC High Density)
footprint MAXM-E16+1_M (SOP, 16-Leads, Body 4.9x3.89mm, Pitch 0.635mm, IPC Low Density)
pins: 1 NC "No Connection. Not internally connected. May be used for PC board trace routing.", 2 VCC (power) "Supply Voltage Input. +3.0V to +5.5V. Bypass to GND with a 0.1uF capacitor. A 200ohm series resistor is recommended but not required for additional noise filtering.", 3 DXP "Combined Current Source and ADC Positive Input for Remote-Junction Channel. If a remotesensing junction is not used, connect DXP to DXN.", 4 DXN "Combined Current Sink and ADC Negative Input. DXN is internally biased to a diode voltage above ground.", 5 NC "No Connection. Not internally connected. May be used for PC board trace routing.", 6 ADD1 (in) "SMBus Slave Address Select Input. ADD0 and ADD1 are sampled upon power-up.", 7 GND (power) "Ground", 8 GND (power) "Ground", 9 NC "No Connection. Not internally connected. May be used for PC board trace routing.", 10 ADD0 (in) "SMBus Slave Address Select Input. ADD0 and ADD1 are sampled upon power-up.", 11 ~{ALERT} (oc) "SMBus Alert (Interrupt) Output. Open drain.", 12 SMBDATA (io) "SMBus Serial-Data Input/Output. Open drain.", 13 NC "No Connection. Not internally connected. May be used for PC board trace routing.", 14 SMBCLK (in) "SMBus Serial-Clock Input", 15 ~{STBY} (in) "Hardware Standby Input. Temperature and comparison threshold data are retained in standby mode. Low = standby mode, high = operating mode.", 16 NC "No Connection. Not internally connected. May be used for PC board trace routing."

## MAX1617AMEE+W
designator U?
Remote / Local Temperature Sensor with SMBus Serial Interface, 8 Bits Temperature Resolution, -55 to 125 degC, 16-Pin SOP (E16+1), Pb-Free; Generic Part Number: MAX1617A; PartNumber: MAX1617AMEE+W; Alarm Output: Alert; Functions: Remote & Local Sensor; Interface: 2-Wire/I2C/SMBus; Parasite Pwr.: No; DatasheetVersion: Rev. 1; PackageVersion: Rev. K, 04/2012; PackageReference: E16+1; PackageDescription: 16-Pin Quarter Small-Outline Package (E16+1), Body 4.90 x 3.89 mm, Pitch 0.635 mm; Supplier 1: Mouser; Supplier Part Number 1: N/A; Mounting Technology: Surface Mount; Code_JEDEC: MO137; ComponentLink1Description: Manufacturer URL; ComponentLink1URL: http://www.maximintegrated.com/; ComponentLink2Description: Datasheet; ComponentLink2URL: http://datasheets.maximintegrated.com/en/ds/MAX1617A.pdf; ComponentLink3Description: Package Specification; ComponentLink3URL: http://pdfserv.maximintegrated.com/package_dwgs/21-0055.PDF
footprint MAXM-E16+1_N (SOP, 16-Leads, Body 4.9x3.89mm, Pitch 0.635mm, IPC Medium Density)
footprint MAXM-E16+1_L (SOP, 16-Leads, Body 4.9x3.89mm, Pitch 0.635mm, IPC High Density)
footprint MAXM-E16+1_M (SOP, 16-Leads, Body 4.9x3.89mm, Pitch 0.635mm, IPC Low Density)
pins: 1 NC "No Connection. Not internally connected. May be used for PC board trace routing.", 2 VCC (power) "Supply Voltage Input. +3.0V to +5.5V. Bypass to GND with a 0.1uF capacitor. A 200ohm series resistor is recommended but not required for additional noise filtering.", 3 DXP "Combined Current Source and ADC Positive Input for Remote-Junction Channel. If a remotesensing junction is not used, connect DXP to DXN.", 4 DXN "Combined Current Sink and ADC Negative Input. DXN is internally biased to a diode voltage above ground.", 5 NC "No Connection. Not internally connected. May be used for PC board trace routing.", 6 ADD1 (in) "SMBus Slave Address Select Input. ADD0 and ADD1 are sampled upon power-up.", 7 GND (power) "Ground", 8 GND (power) "Ground", 9 NC "No Connection. Not internally connected. May be used for PC board trace routing.", 10 ADD0 (in) "SMBus Slave Address Select Input. ADD0 and ADD1 are sampled upon power-up.", 11 ~{ALERT} (oc) "SMBus Alert (Interrupt) Output. Open drain.", 12 SMBDATA (io) "SMBus Serial-Data Input/Output. Open drain.", 13 NC "No Connection. Not internally connected. May be used for PC board trace routing.", 14 SMBCLK (in) "SMBus Serial-Clock Input", 15 ~{STBY} (in) "Hardware Standby Input. Temperature and comparison threshold data are retained in standby mode. Low = standby mode, high = operating mode.", 16 NC "No Connection. Not internally connected. May be used for PC board trace routing."

## MAX1617AMEE-T
designator U?
Remote / Local Temperature Sensor with SMBus Serial Interface, 8 Bits Temperature Resolution, -55 to 125 degC, 16-Pin SOP (E16-1), Tape and Reel; Generic Part Number: MAX1617A; PartNumber: MAX1617AMEE-T; Alarm Output: Alert; Functions: Remote & Local Sensor; Interface: 2-Wire/I2C/SMBus; Parasite Pwr.: No; DatasheetVersion: Rev. 1; PackageVersion: Rev. K, 04/2012; PackageReference: E16-1; PackageDescription: 16-Pin Quarter Small-Outline Package (E16-1), Body 4.90 x 3.89 mm, Pitch 0.635 mm; Supplier 1: Mouser; Supplier Part Number 1: N/A; Packing: Tape and Reel; Mounting Technology: Surface Mount; Code_JEDEC: MO137; ComponentLink1Description: Manufacturer URL; ComponentLink1URL: http://www.maximintegrated.com/; ComponentLink2Description: Datasheet; ComponentLink2URL: http://datasheets.maximintegrated.com/en/ds/MAX1617A.pdf; ComponentLink3Description: Package Specification; ComponentLink3URL: http://pdfserv.maximintegrated.com/package_dwgs/21-0055.PDF
footprint MAXM-E16-1_N (SOP, 16-Leads, Body 4.9x3.89mm, Pitch 0.635mm, IPC Medium Density)
footprint MAXM-E16-1_L (SOP, 16-Leads, Body 4.9x3.89mm, Pitch 0.635mm, IPC High Density)
footprint MAXM-E16-1_M (SOP, 16-Leads, Body 4.9x3.89mm, Pitch 0.635mm, IPC Low Density)
pins: 1 NC "No Connection. Not internally connected. May be used for PC board trace routing.", 2 VCC (power) "Supply Voltage Input. +3.0V to +5.5V. Bypass to GND with a 0.1uF capacitor. A 200ohm series resistor is recommended but not required for additional noise filtering.", 3 DXP "Combined Current Source and ADC Positive Input for Remote-Junction Channel. If a remotesensing junction is not used, connect DXP to DXN.", 4 DXN "Combined Current Sink and ADC Negative Input. DXN is internally biased to a diode voltage above ground.", 5 NC "No Connection. Not internally connected. May be used for PC board trace routing.", 6 ADD1 (in) "SMBus Slave Address Select Input. ADD0 and ADD1 are sampled upon power-up.", 7 GND (power) "Ground", 8 GND (power) "Ground", 9 NC "No Connection. Not internally connected. May be used for PC board trace routing.", 10 ADD0 (in) "SMBus Slave Address Select Input. ADD0 and ADD1 are sampled upon power-up.", 11 ~{ALERT} (oc) "SMBus Alert (Interrupt) Output. Open drain.", 12 SMBDATA (io) "SMBus Serial-Data Input/Output. Open drain.", 13 NC "No Connection. Not internally connected. May be used for PC board trace routing.", 14 SMBCLK (in) "SMBus Serial-Clock Input", 15 ~{STBY} (in) "Hardware Standby Input. Temperature and comparison threshold data are retained in standby mode. Low = standby mode, high = operating mode.", 16 NC "No Connection. Not internally connected. May be used for PC board trace routing."

## MAX1619MEE
designator U?
Remote / Local Temperature Sensor with Dual-Alarm Outputs and SMBus Serial Interface, 8 Bits Temperature Resolution, -55 to 125 degC, 16-Pin SOP (E16-5); Generic Part Number: MAX1619; PartNumber: MAX1619MEE; Alarm Output: Alert, Overt; Functions: Remote & Local Sensor; Interface: 2-Wire/I2C/SMBus; Parasite Pwr.: No; DatasheetVersion: Rev. 0; PackageVersion: Rev. K, 04/2012; PackageReference: E16-5; PackageDescription: 16-Pin Quarter Small-Outline Package, Body 3.9 x 4.89 mm, Pitch 0.635 mm; Supplier 1: Digi-Key; Supplier Part Number 1: MAX1619MEE-ND; Supplier 2: Mouser; Supplier Part Number 2: N/A; Mounting Technology: Surface Mount; Code_JEDEC: MO-137; ComponentLink1Description: Manufacturer URL; ComponentLink1URL: http://www.maximintegrated.com/; ComponentLink2Description: Datasheet; ComponentLink2URL: http://datasheets.maximintegrated.com/en/ds/MAX1619.pdf; ComponentLink3Description: Package Specification; ComponentLink3URL: http://pdfserv.maximintegrated.com/package_dwgs/21-0055.PDF
footprint MAXM-E16-5_N (SOP, 16-Leads, Body 4.89x3.9mm, Pitch 0.635mm, IPC Medium Density)
footprint MAXM-E16-5_L (SOP, 16-Leads, Body 4.89x3.9mm, Pitch 0.635mm, IPC High Density)
footprint MAXM-E16-5_M (SOP, 16-Leads, Body 4.89x3.9mm, Pitch 0.635mm, IPC Low Density)
pins: 1 VCC (power) "Supply Voltage Input, 3V to 5.5V. Bypass to GND with a 0.1uF capacitor. A 200Ohm series resistor is recommended but not required for additional noise filtering.", 2 GND (power) "Not internally connected. Connect to GND to act against leakage paths from VCC to DXP.", 3 DXP "Combined Current Source and A/D Positive Input for Remote-Diode Channel. Do not leave DXP floating; connect DXP to DXN if no remote diode is used. Place a 2200pF capacitor between DXP and DXN for noise filtering.", 4 DXN "Combined Current Sink and A/D Negative Input. DXN is normally internally biased to a diode voltage above ground.", 5 NC "No Connection. Not internally connected. May be used for PC board trace routing.", 6 ADD1 (in) "SMBus Address Select Pin (Table 8). ADD0 and ADD1 are sampled upon power-up. Excess capacitance (>50pF) at the address pins when floating may cause address-recognition problems.", 7 GND (power) "Ground", 8 GND (power) "Ground", 9 ~{OVERT} (oc) "Overtemperature Alarm Output, Open Drain. This is an unlatched alarm output that responds only to the remote diode temperature.", 10 ADD0 (in) "SMBus Slave Address Select Pin", 11 ~{ALERT} (oc) "SMBus Alert (interrupt) Output, Open Drain", 12 SMBDATA (io) "SMBus Serial-Data Input/Output, Open Drain", 13 NC "No Connection. Not internally connected. May be used for PC board trace routing.", 14 SMBCLK (in) "SMBus Serial-Clock Input", 15 ~{STBY} (in) "Hardware Standby Input. Temperature and comparison threshold data are retained in standby mode.Low = standby mode, high = operate mode.", 16 NC "No Connection. Not internally connected. May be used for PC board trace routing."